# EAGLE library part PMIC_AXP323 (library !GPLIB_ACTIVE)
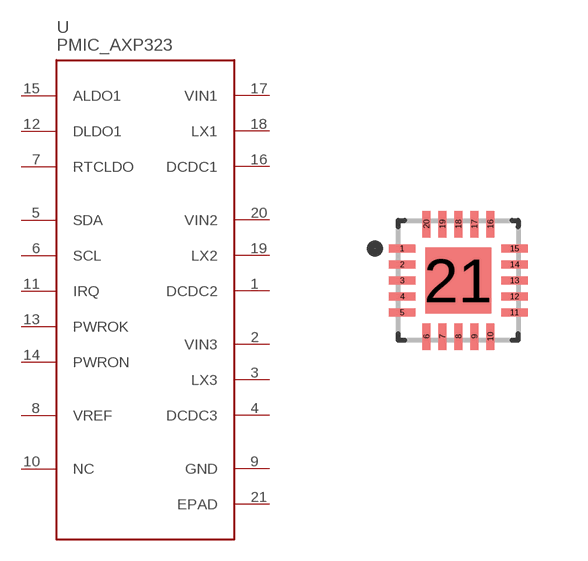
[diagram p58: symbol with the pads of QFN40P300X300X85-21N; footprint QFN40P300X300X85-21N]

Designator prefix U

## PMIC_AXP323_AXP323  [QFN40P300X300X85-21N]
1  DCDC2  pwr
2  VIN3  pwr
3  LX3  pwr
4  DCDC3  pwr
5  SDA
6  SCL
7  RTCLDO
8  VREF
9  GND  pwr
10  NC
11  IRQ
12  DLDO1
13  PWROK
14  PWRON
15  ALDO1
16  DCDC1  pwr
17  VIN1  pwr
18  LX1  pwr
19  LX2  pwr
20  VIN2  pwr
21  EPAD  pwr

## Footprint QFN40P300X300X85-21N (pad centres in mm)
smd 0.665 x 0.2: 1 -1.407,0.8; 2 -1.407,0.4; 3 -1.407,0; 4 -1.407,-0.4; 5 -1.407,-0.8; 11 1.407,-0.8; 12 1.407,-0.4; 13 1.407,0; 14 1.407,0.4; 15 1.407,0.8
smd 0.2 x 0.665: 6 -0.8,-1.407; 7 -0.4,-1.407; 8 0,-1.407; 9 0.4,-1.407; 10 0.8,-1.407; 16 0.8,1.407; 17 0.4,1.407; 18 0,1.407; 19 -0.4,1.407; 20 -0.8,1.407
smd 1.65 x 1.65: 21 0,0